# Altium schematic symbol library IC_Texas_Instruments_TPS65218B1RSLT_eec.SchLib: 1 symbol
Pins are listed as number, name and electrical type; pins without a type are passive.

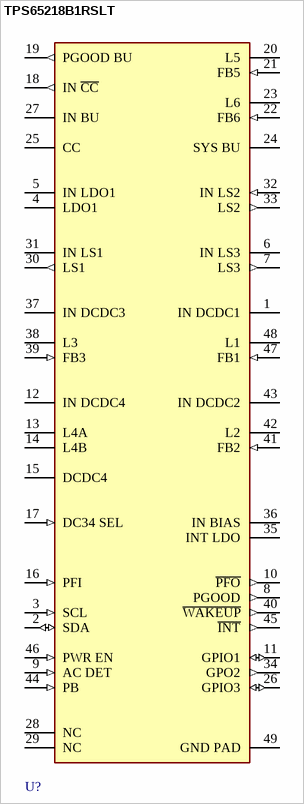
[diagram p0: symbol TPS65218B1RSLT]

## TPS65218B1RSLT
designator U?  (value not drawn)
pins: 1 IN DCDC1 (power), 2 SDA (io), 3 SCL (in), 4 LDO1, 5 IN LDO1, 6 IN LS3 (power), 7 LS3 (out), 8 PGOOD (out), 9 AC DET (in), 10 ~{PFO} (out), 11 GPIO1 (io), 12 IN DCDC4 (power), 13 L4A (power), 14 L4B (power), 15 DCDC4 (power), 16 PFI (in), 17 DC34 SEL (in), 18 IN ~{CC} (out), 19 PGOOD BU (out), 20 L5 (power), 21 FB5 (in), 22 FB6 (in), 23 L6 (power), 24 SYS BU (power), 25 CC (power), 26 GPIO3 (io), 27 IN BU (power), 28 NC, 29 NC, 30 LS1 (out), 31 IN LS1 (power), 32 IN LS2 (in), 33 LS2 (out), 34 GPO2 (out), 35 INT LDO (power), 36 IN BIAS (power), 37 IN DCDC3 (power), 38 L3 (power), 39 FB3 (in), 40 ~{WAKEUP} (out), 41 FB2 (in), 42 L2 (power), 43 IN DCDC2 (power), 44 PB (in), 45 ~{INT} (out), 46 PWR EN (in), 47 FB1 (in), 48 L1 (power), 49 GND PAD (power)